# Altium footprint library SOP65P760X160-24N.PcbLib: 1 footprints
Each footprint in its own frame and in the unit in brackets; x right, y up, seen from the top. Pads: shape width x height; smd on the part's side, far side on the other; paste and mask are expansions set on the pad; w line width, h text height; cw(c..) or ccw(c..) is an arc to the next point about the centre after c.
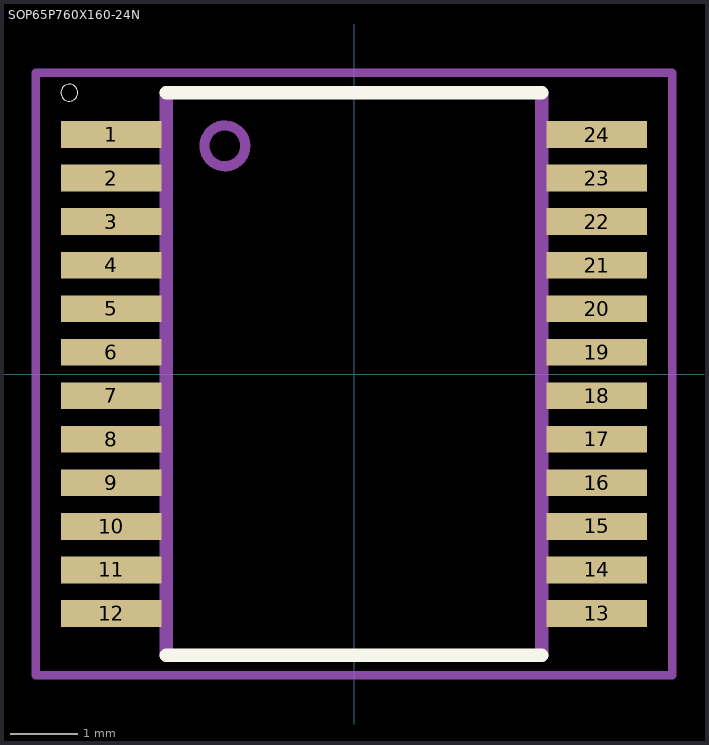
[diagram p0: the footprint, top view; thin cyan lines are the x and y axes]

## SOP65P760X160-24N [mm]
pads (24):
  rect 1.5x0.4 smd: 1(-3.625,3.575) 2(-3.625,2.925) 3(-3.625,2.275) 4(-3.625,1.625) 5(-3.625,0.975) 6(-3.625,0.325) 7(-3.625,-0.325) 8(-3.625,-0.975) 9(-3.625,-1.625) 10(-3.625,-2.275) 11(-3.625,-2.925) 12(-3.625,-3.575) 13(3.625,-3.575) 14(3.625,-2.925) 15(3.625,-2.275) 16(3.625,-1.625) 17(3.625,-0.975) 18(3.625,-0.325) 19(3.625,0.325) 20(3.625,0.975) 21(3.625,1.625) 22(3.625,2.275) 23(3.625,2.925) 24(3.625,3.575)
Top Overlay:
  circle w0: c-4.25,4.2 r0.127
  lines w0.203: -2.8,-4.2 2.8,-4.2 ; -2.8,4.2 2.8,4.2
Mechanical 13:
  circle w0.152: c-1.928,3.406 r0.305
  region: -2.8,3.427 -3.803,3.427 -3.803,3.725 -2.8,3.725
  region: -2.8,2.777 -3.802,2.777 -3.802,3.075 -2.8,3.075
  region: -2.8,2.128 -3.806,2.128 -3.806,2.425 -2.8,2.425
  region: -2.8,1.475 -3.8,1.475 -3.8,1.775 -2.8,1.775
  region: -2.8,0.826 -3.805,0.826 -3.805,1.125 -2.8,1.125
  region: -2.8,0.175 -3.805,0.175 -3.805,0.475 -2.8,0.475
  region: -2.8,-0.475 -3.804,-0.475 -3.804,-0.175 -2.8,-0.175
  region: -2.8,-1.126 -3.804,-1.126 -3.804,-0.825 -2.8,-0.825
  region: -2.8,-1.776 -3.802,-1.776 -3.802,-1.475 -2.8,-1.475
  region: -2.8,-2.427 -3.803,-2.427 -3.803,-2.125 -2.8,-2.125
  region: -2.8,-3.079 -3.804,-3.079 -3.804,-2.775 -2.8,-2.775
  region: -2.8,-3.731 -3.806,-3.731 -3.806,-3.425 -2.8,-3.425
  region: 3.8,0.175 2.804,0.175 2.804,0.475 3.8,0.475
  region: 3.8,0.825 2.801,0.825 2.801,1.125 3.8,1.125
  region: 3.8,2.127 2.802,2.127 2.802,2.425 3.8,2.425
  region: 3.8,2.776 2.801,2.776 2.801,3.075 3.8,3.075
  region: 3.8,3.428 2.802,3.428 2.802,3.725 3.8,3.725
  region: 3.8,-3.728 2.802,-3.728 2.802,-3.425 3.8,-3.425
  region: 3.8,-3.08 2.805,-3.08 2.805,-2.775 3.8,-2.775
  region: 3.8,-1.776 2.802,-1.776 2.802,-1.475 3.8,-1.475
  region: 3.8,-1.127 2.804,-1.127 2.804,-0.825 3.8,-0.825
  region: 3.8,-0.476 2.804,-0.476 2.804,-0.175 3.8,-0.175
  region: 3.8,1.476 2.803,1.476 2.803,1.775 3.8,1.775
  region: 3.8,-2.428 2.804,-2.428 2.804,-2.125 3.8,-2.125
  lines w0.203: -2.8,-4.2 -2.8,4.2 ; 2.8,-4.2 2.8,4.2
Mechanical 15:
  lines w0.127: -4.75,-4.5 4.75,-4.5 4.75,4.5 -4.75,4.5 -4.75,-4.5
3D body "step_temp.STEP": height 1.6, standoff 0, extent -3.8,-4.15 3.8,4.15